# EAGLE library part MAGJACK_POE_D (library bear)
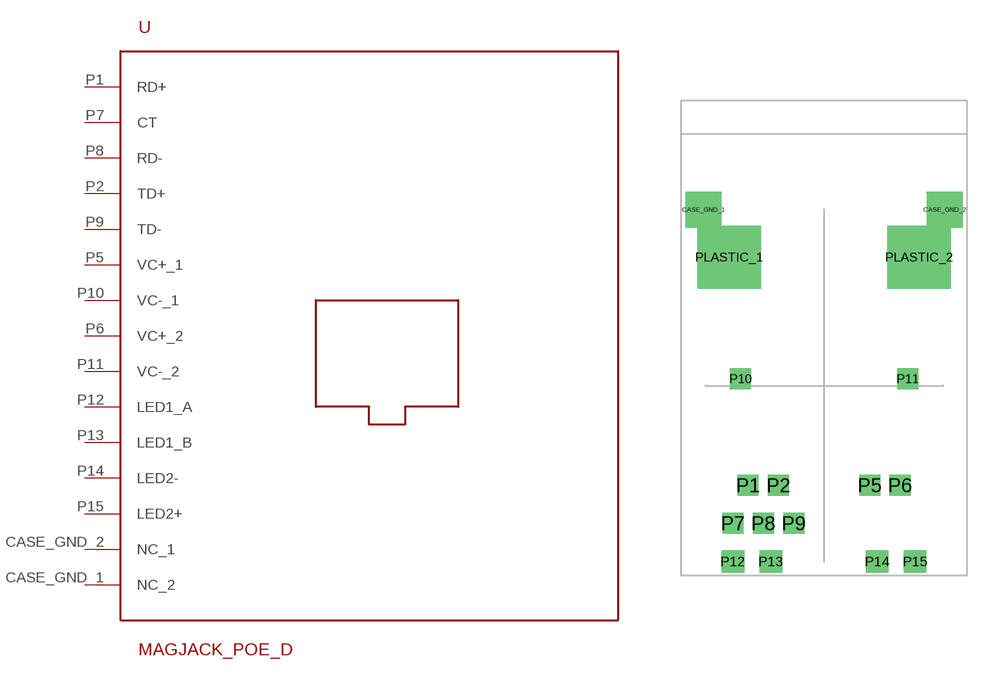
[diagram p0: symbol with the pads of ETH_FOOT_PRNT; footprint ETH_FOOT_PRNT]

Designator prefix -

## MAGJACK_POE_D  [ETH_FOOT_PRNT]
CASE_GND_1  NC_2  nc
CASE_GND_2  NC_1  nc
P1  RD+
P2  TD+
P5  VC+_1  pwr
P6  VC+_2  pwr
P7  CT
P8  RD-
P9  TD-
P10  VC-_1  pwr
P11  VC-_2  pwr
P12  LED1_A
P13  LED1_B
P14  LED2-
P15  LED2+

## Footprint ETH_FOOT_PRNT (pad centres in mm)
drill 1.6 square: CASE_GND_1 -8.065,11.748; CASE_GND_2 8.065,11.748
drill 0.9 square: P1 -5.08,-6.668; P2 -3.048,-6.668; P5 3.048,-6.668; P6 5.08,-6.668; P7 -6.096,-9.207; P8 -4.064,-9.207; P9 -2.032,-9.207; P10 -5.588,0.445; P11 5.588,0.445
drill 1 square: P12 -6.096,-11.748; P13 -3.556,-11.748; P14 3.556,-11.748; P15 6.096,-11.748
drill 3.2 square: PLASTIC_1 -6.35,8.572; PLASTIC_2 6.35,8.572